# Altium schematic symbol library SamacSys.SchLib: 108 symbols (part 1 of 2)
Pins are listed as number, name and electrical type; pins without a type are passive.

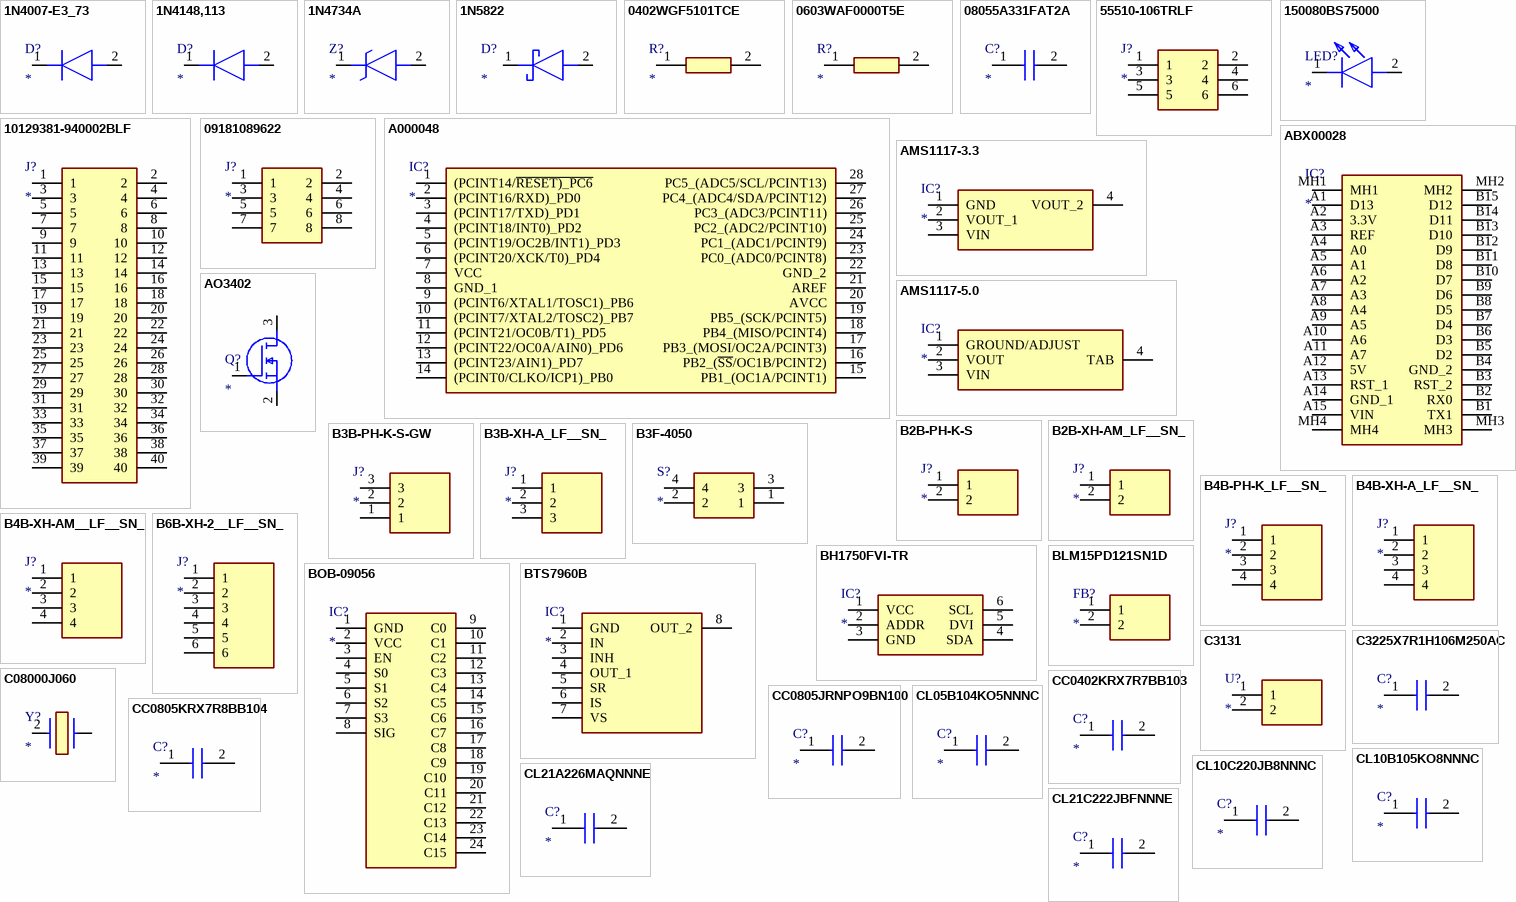
[diagram p0: symbols 1N4007-E3_73 to CL21C222JBFNNNE]

## 1N4007-E3_73
designator D?
Diode; Manufacturer_Name: Vishay; Manufacturer_Part_Number: 1N4007-E3/73; Datasheet Link: https://mouser.componentsearchengine.com/Datasheets/2/1N4007-E3_73.pdf; Mouser Part Number: 625-1N4007-E3/73; Mouser Price/Stock: https://www.mouser.co.uk/ProductDetail/Vishay-General-Semiconductor/1N4007-E3-73?qs=N4vtoAxH%2FSqT3Ng3e4K0Gw%3D%3D; Arrow Part Number: 1N4007-E3/73; Arrow Price/Stock: https://www.arrow.com/en/products/1n4007-e373/vishay?region=europe
footprint DIOAD1405W86L465D235
pins: 1 K, 2 A

## 1N4148,113
designator D?
Diode; Manufacturer_Name: Nexperia; Manufacturer_Part_Number: 1N4148,113; Datasheet Link: https://assets.nexperia.com/documents/data-sheet/1N4148_1N4448.pdf; Arrow Part Number: 1N4148,113; Arrow Price/Stock: https://www.arrow.com/en/products/1n4148113/nexperia
footprint DIOAD1165W56L425D185
pins: 1 K, 2 A

## 1N4734A
designator Z?
Zener Diode; Manufacturer_Name: Microsemi Corporation; Manufacturer_Part_Number: 1N4734A; Datasheet Link: https://www.microsemi.com/existing-parts/parts/2088#resources; Mouser Part Number: N/A; Mouser Price/Stock: https://www.mouser.co.uk/ProductDetail/Microchip-Microsemi/1N4734A?qs=oomPkbqnLXc7x92Y0KXq4g%3D%3D; Arrow Part Number: 1N4734A; Arrow Price/Stock: https://www.arrow.com/en/products/1n4734a/microsemi
footprint DIOAD1608W86L521D272
pins: 1 K, 2 A

## 1N5822
designator D?
Schottky Diode; Manufacturer_Name: NEUTRAL; Manufacturer_Part_Number: 1N5822
footprint DIOAD2984W132L952D508
pins: 1 K, 2 A

## 0402WGF5101TCE
designator R?
Resistor; Manufacturer_Name: UNI-ROYAL(Uniroyal Elec); Manufacturer_Part_Number: 0402WGF5101TCE; Datasheet Link: https://datasheet.lcsc.com/szlcsc/Uniroyal-Elec-0402WGF5101TCE_C25905.pdf; Height: 0.4mm
footprint RESC1005X40N
pins: 1, 2

## 0603WAF0000T5E
designator R?
Resistor; Manufacturer_Name: UNI-ROYAL(Uniroyal Elec); Manufacturer_Part_Number: 0603WAF0000T5E; Datasheet Link: https://www.lcsc.com/datasheet/lcsc_datasheet_2206010045_UNI-ROYAL-Uniroyal-Elec-0603WAF1002T5E_C25804.pdf; Height: 0.55mm
footprint RESC1608X55N
pins: 1, 2

## 08055A331FAT2A
designator C?
Capacitor; Manufacturer_Name: AVX; Manufacturer_Part_Number: 08055A331FAT2A; Datasheet Link: https://componentsearchengine.com/Datasheets/1/06031A100FAT2A.pdf; Height: 0.94mm; Mouser Part Number: 581-08055A331FAT2A; Mouser Price/Stock: https://www.mouser.com/Search/Refine.aspx?Keyword=581-08055A331FAT2A; Arrow Part Number: 08055A331FAT2A; Arrow Price/Stock: https://www.arrow.com/en/products/08055a331fat2a/avx
footprint CAPC2012X94N
pins: 1, 2

## 55510-106TRLF
designator J?
Connector; Manufacturer_Name: Amphenol; Manufacturer_Part_Number: 55510-106TRLF; Datasheet Link: https://componentsearchengine.com/Datasheets/1/55510-106TRLF.pdf; Height: 4.5mm; Mouser Part Number: 649-55510-106TRLF; Mouser Price/Stock: https://www.mouser.co.uk/ProductDetail/Amphenol-FCI/55510-106TRLF?qs=JdmRl75CwTo88cj04xUKAg%3D%3D; Arrow Part Number: 55510-106TRLF; Arrow Price/Stock: https://www.arrow.com/en/products/55510-106trlf/amphenol-fci?region=nac
footprint 55510106TRLF
pins: 1, 2, 3, 4, 5, 6

## 150080BS75000
designator LED?
LED; Manufacturer_Name: Wurth Elektronik; Manufacturer_Part_Number: 150080BS75000; Datasheet Link: https://katalog.we-online.com/led/datasheet/150080BS75000.pdf; Height: 0.8mm; Mouser Part Number: 710-150080BS75000; Mouser Price/Stock: https://www.mouser.co.uk/ProductDetail/Wurth-Elektronik/150080BS75000?qs=2kOmHSv6VfT2tBo3UPVqAQ%3D%3D
footprint LEDC2012X80N
pins: 1 K, 2 A

## 10129381-940002BLF
designator J?
Connector; Manufacturer_Name: Amphenol; Manufacturer_Part_Number: 10129381-940002BLF; Datasheet Link: https://cdn.amphenol-icc.com/media/wysiwyg/files/documentation/datasheet/boardwiretoboard/bwb_econostik_254headers.pdf; Height: 8.78mm; Mouser Part Number: 649-1012938194002BLF; Mouser Price/Stock: https://www.mouser.co.uk/ProductDetail/Amphenol-FCI/10129381-940002BLF?qs=0lQeLiL1qybDkBpXY7DYcQ%3D%3D
footprint HDRV40W64P254_2X20_5080X483X878P
pins: 1, 2, 3, 4, 5, 6, 7, 8, 9, 10, 11, 12, 13, 14, 15, 16, 17, 18, 19, 20, 21, 22, 23, 24, 25, 26, 27, 28, 29, 30, 31, 32, 33, 34, 35, 36, 37, 38, 39, 40

## 09181089622
designator J?
Connector; Manufacturer_Name: HARTING; Manufacturer_Part_Number: 09181089622; Datasheet Link: https://b2b.harting.com/files/download/PRD/PDF_DS/PDF_DS_09181089622_EN.pdf; Height: 5.5mm; Mouser Part Number: 617-09181089622; Mouser Price/Stock: https://www.mouser.co.uk/ProductDetail/HARTING/09181089622?qs=FeiuqfHlVTv2CjJEejdN9Q%3D%3D
footprint 09181089622
pins: 1, 2, 3, 4, 5, 6, 7, 8

## A000048
designator IC?
Integrated Circuit; Manufacturer_Name: Arduino; Manufacturer_Part_Number: A000048; Datasheet Link: https://componentsearchengine.com/Datasheets/2/A000048.pdf; Height: 4.572mm; Mouser Part Number: 782-A000048; Mouser Price/Stock: https://www.mouser.com/Search/Refine.aspx?Keyword=782-A000048
footprint DIP794W53P254L3467H457Q28N
pins: 1 (PCINT14/~{RESET)_PC6}, 2 (PCINT16/RXD)_PD0, 3 (PCINT17/TXD)_PD1, 4 (PCINT18/INT0)_PD2, 5 (PCINT19/OC2B/INT1)_PD3, 6 (PCINT20/XCK/T0)_PD4, 7 VCC, 8 GND_1, 9 (PCINT6/XTAL1/TOSC1)_PB6, 10 (PCINT7/XTAL2/TOSC2)_PB7, 11 (PCINT21/OC0B/T1)_PD5, 12 (PCINT22/OC0A/AIN0)_PD6, 13 (PCINT23/AIN1)_PD7, 14 (PCINT0/CLKO/ICP1)_PB0, 15 PB1_(OC1A/PCINT1), 16 PB2_(~{SS}/OC1B/PCINT2), 17 PB3_(MOSI/OC2A/PCINT3), 18 PB4_(MISO/PCINT4), 19 PB5_(SCK/PCINT5), 20 AVCC, 21 AREF, 22 GND_2, 23 PC0_(ADC0/PCINT8), 24 PC1_(ADC1/PCINT9), 25 PC2_(ADC2/PCINT10), 26 PC3_(ADC3/PCINT11), 27 PC4_(ADC4/SDA/PCINT12), 28 PC5_(ADC5/SCL/PCINT13)

## ABX00028
designator IC?
Integrated Circuit; Manufacturer_Name: Arduino; Manufacturer_Part_Number: ABX00028; Datasheet Link: https://store.arduino.cc/arduino-nano-every; Height: 10mm; Mouser Part Number: 782-ABX00028; Mouser Price/Stock: https://www.mouser.co.uk/ProductDetail/Arduino/ABX00028?qs=PzGy0jfpSMtit6rnFl8mVg%3D%3D; Arrow Part Number: ABX00028; Arrow Price/Stock: https://www.arrow.com/en/products/abx00028/arduino-corporation?region=nac
footprint ABX00028
pins: A1 D13, A2 3.3V, A3 REF, A4 A0, A5 A1, A6 A2, A7 A3, A8 A4, A9 A5, A10 A6, A11 A7, A12 5V, A13 RST_1, A14 GND_1, A15 VIN, B1 TX1, B2 RX0, B3 RST_2, B4 GND_2, B5 D2, B6 D3, B7 D4, B8 D5, B9 D6, B10 D7, B11 D8, B12 D9, B13 D10, B14 D11, B15 D12, MH1, MH2, MH3, MH4

## AMS1117-3.3
designator IC?
Integrated Circuit; Manufacturer_Name: Advanced Monolithic Systems; Manufacturer_Part_Number: AMS1117-3.3; Datasheet Link: http://www.advanced-monolithic.com/pdf/ds1117.pdf; Height: 1.8mm
footprint SOT229P700X180-4N
pins: 1 GND, 2 VOUT_1, 3 VIN, 4 VOUT_2

## AMS1117-5.0
designator IC?
Integrated Circuit; Manufacturer_Name: Advanced Monolithic Systems; Manufacturer_Part_Number: AMS1117-5.0; Datasheet Link: http://www.advanced-monolithic.com/pdf/ds1117.pdf; Height: 1.8mm
footprint SOT229P700X180-4N
pins: 1 GROUND/ADJUST, 2 VOUT, 3 VIN, 4 TAB

## AO3402
designator Q?
MOSFET (N-Channel); Manufacturer_Name: Alpha & Omega Semiconductors; Manufacturer_Part_Number: AO3402; Datasheet Link: http://aosmd.com/res/data_sheets/AO3402.pdf; Height: 1.25mm; Arrow Part Number: AO3402; Arrow Price/Stock: https://www.arrow.com/en/products/ao3402/alpha-and-omega-semiconductor?region=europe
footprint SOT95P280X125-3N
pins: 1 G, 2 S, 3 D

## B2B-PH-K-S
designator J?
Connector; Manufacturer_Name: JST (JAPAN SOLDERLESS TERMINALS); Manufacturer_Part_Number: B2B-PH-K-S; Datasheet Link: http://www.jst-mfg.com/product/pdf/eng/ePH.pdf; Height: 6mm
footprint SHDR2W50P0X200_1X2_590X450X600P
pins: 1, 2

## B2B-XH-AM_LF__SN_
designator J?
Connector; Manufacturer_Name: JST (JAPAN SOLDERLESS TERMINALS); Manufacturer_Part_Number: B2B-XH-AM(LF)(SN); Datasheet Link: https://www.jst-mfg.com/product/pdf/eng/eXH.pdf; Height: 7mm; Arrow Part Number: B2B-XH-AM(LF)(SN); Arrow Price/Stock: https://www.arrow.com/en/products/b2b-xh-am-lf-sn/jst-manufacturing?region=europe
footprint B2BXHAMLFSN
pins: 1, 2

## B3B-PH-K-S-GW
designator J?
Connector; Manufacturer_Name: JST (JAPAN SOLDERLESS TERMINALS); Manufacturer_Part_Number: B3B-PH-K-S-GW; Datasheet Link: http://www.jst-mfg.com/product/pdf/eng/ePH.pdf; Height: 6mm
footprint B3BPHKSGW
pins: 1, 2, 3

## B3B-XH-A_LF__SN_
designator J?
Connector; Manufacturer_Name: JST (JAPAN SOLDERLESS TERMINALS); Manufacturer_Part_Number: B3B-XH-A(LF)(SN); Datasheet Link: https://datasheet.lcsc.com/szlcsc/1812131720_JST-Sales-America-B3B-XH-A-LF-SN_C144394.pdf; Height: 7mm; Arrow Part Number: B3B-XH-A(LF)(SN); Arrow Price/Stock: https://www.arrow.com/en/products/b3b-xh-a-lf-sn/jst-manufacturing?region=europe
footprint B3BXHALFSN
pins: 1, 2, 3

## B3F-4050
designator S?
Switch; Manufacturer_Name: Omron Electronics; Manufacturer_Part_Number: B3F-4050; Description: lvory Plunger Tactile Switch; Datasheet Link: https://www.omron.com/ecb/products/pdf/en-b3f.pdf; Height: 7.5mm; Mouser Part Number: 653-B3F-4050; Mouser Price/Stock: https://www.mouser.co.uk/ProductDetail/Omron-Electronics/B3F-4050?qs=B3tblJ0Nlt9ObBVoLmesBQ%3D%3D; Arrow Part Number: B3F-4050; Arrow Price/Stock: https://www.arrow.com/en/products/b3f4050/omron?utm_currency=USD&region=europe
footprint B3F4050
pins: 1, 2, 3, 4

## B4B-PH-K_LF__SN_
designator J?
Connector; Manufacturer_Name: JST (JAPAN SOLDERLESS TERMINALS); Manufacturer_Part_Number: B4B-PH-K(LF)(SN); Datasheet Link: http://www.jst-mfg.com/product/pdf/eng/ePH.pdf; Height: 6mm
footprint SHDR4W50P0X200_1X4_990X450X600P
pins: 1, 2, 3, 4

## B4B-XH-A_LF__SN_
designator J?
Connector; Manufacturer_Name: JST (JAPAN SOLDERLESS TERMINALS); Manufacturer_Part_Number: B4B-XH-A(LF)(SN); Datasheet Link: https://datasheet.lcsc.com/szlcsc/JST-Sales-America-B4B-XH-A-LF-SN_C144395.pdf; Height: 7mm; Arrow Part Number: B4B-XH-A(LF)(SN); Arrow Price/Stock: https://www.arrow.com/en/products/b4b-xh-a-lf-sn/jst-manufacturing
footprint B4BXHALFSN
pins: 1, 2, 3, 4

## B4B-XH-AM__LF__SN_
designator J?
Connector; Manufacturer_Name: JST (JAPAN SOLDERLESS TERMINALS); Manufacturer_Part_Number: B4B-XH-AM (LF)(SN); Datasheet Link: http://www.jst-mfg.com/product/pdf/eng/eXH.pdf; Height: 7mm; Arrow Part Number: B4B-XH-AM (LF)(SN); Arrow Price/Stock: https://www.arrow.com/en/products/b4b-xh-am-lf-sn/jst-manufacturing?region=europe
footprint B4BXHAMLFSN
pins: 1, 2, 3, 4

## B6B-XH-2__LF__SN_
designator J?
Connector; Manufacturer_Name: JST (JAPAN SOLDERLESS TERMINALS); Manufacturer_Part_Number: B6B-XH-2 (LF)(SN); Datasheet Link: https://static6.arrow.com/aropdfconversion/bebabe3d183e85f31ef4e817bf14cd36f814e088/exh.pdf; Height: 7mm; Mouser Part Number: N/A; Mouser Price/Stock: https://www.mouser.com/Search/Refine.aspx?Keyword=N%2FA
footprint B6BXH2LFSN
pins: 1, 2, 3, 4, 5, 6

## BH1750FVI-TR
designator IC?
Integrated Circuit; Manufacturer_Name: ROHM Semiconductor; Manufacturer_Part_Number: BH1750FVI-TR; Datasheet Link: https://componentsearchengine.com/Datasheets/2/BH1750FVI-TR.pdf; Mouser Part Number: 755-BH1750FVI-TR; Mouser Price/Stock: https://www.mouser.co.uk/ProductDetail/ROHM-Semiconductor/BH1750FVI-TR?qs=phc6PQ%252BTPUNy88lRCs6mVA%3D%3D; Arrow Part Number: BH1750FVI-TR; Arrow Price/Stock: https://www.arrow.com/en/products/bh1750fvi-tr/rohm-semiconductor
footprint WSOF6
pins: 1 VCC, 2 ADDR, 3 GND, 4 SDA, 5 DVI, 6 SCL

## BLM15PD121SN1D
designator FB?
Ferrite Bead; Manufacturer_Name: Murata Electronics; Manufacturer_Part_Number: BLM15PD121SN1D; Datasheet Link: http://www.murata.com/~/media/webrenewal/support/library/catalog/products/emc/emifil/c31e.ashx?la=en-gb; Height: 0.55mm; Mouser Part Number: 81-BLM15PD121SN1D; Mouser Price/Stock: https://www.mouser.co.uk/ProductDetail/Murata-Electronics/BLM15PD121SN1D?qs=%2F%252BYoplLUB5g0Gmk4myE12Q%3D%3D; Arrow Part Number: BLM15PD121SN1D; Arrow Price/Stock: https://www.arrow.com/en/products/blm15pd121sn1d/murata-manufacturing?region=nac
footprint NFZ15SG152SN10B
pins: 1, 2

## BOB-09056
designator IC?
Integrated Circuit; Manufacturer_Name: SparkFun; Manufacturer_Part_Number: BOB-09056; Datasheet Link: https://www.sparkfun.com/products/9056; Height: 3mm; Mouser Part Number: 474-BOB-09056; Mouser Price/Stock: https://www.mouser.co.uk/ProductDetail/SparkFun/BOB-09056?qs=WyAARYrbSnY3lmN50Mm%2FiQ%3D%3D; Arrow Part Number: BOB-09056; Arrow Price/Stock: https://www.arrow.com/en/products/bob-09056/sparkfun-electronics?region=nac
footprint BOB09056
pins: 1 GND, 2 VCC, 3 EN, 4 S0, 5 S1, 6 S2, 7 S3, 8 SIG, 9 C0, 10 C1, 11 C2, 12 C3, 13 C4, 14 C5, 15 C6, 16 C7, 17 C8, 18 C9, 19 C10, 20 C11, 21 C12, 22 C13, 23 C14, 24 C15

## BTS7960B
designator IC?
Integrated Circuit; Manufacturer_Name: Rochester Electronics; Manufacturer_Part_Number: BTS7960B; Height: 4.4mm
footprint BTS7960B
pins: 1 GND, 2 IN, 3 INH, 4 OUT_1, 5 SR, 6 IS, 7 VS, 8 OUT_2

## C3131
designator U?
Undefined or Miscellaneous; Manufacturer_Name: Xucheng Elec; Manufacturer_Part_Number: C3131; Datasheet Link: https://datasheet.lcsc.com/szlcsc/XC-Elec-Shenzhen-5x20-BLX-Fuse-holder_C3131.pdf; Height: 10.5mm
footprint C3131
pins: 1, 2

## C3225X7R1H106M250AC
designator C?
Capacitor; Manufacturer_Name: TDK; Manufacturer_Part_Number: C3225X7R1H106M250AC; Datasheet Link: https://product.tdk.com/info/en/catalog/datasheets/mlcc_commercial_midvoltage_en.pdf; Height: 2.3mm; Mouser Part Number: 810-C3225X7R1H106MAC; Mouser Price/Stock: https://www.mouser.co.uk/ProductDetail/TDK/C3225X7R1H106M250AC?qs=6JAMGB%252BEdkwY95l8JqNSnw%3D%3D; Arrow Part Number: C3225X7R1H106M250AC; Arrow Price/Stock: https://www.arrow.com/en/products/c3225x7r1h106m250ac/tdk?region=nac
footprint CAPC3225X230N
pins: 1, 2

## C08000J060
designator Y?
Crystal or Oscillator; Manufacturer_Name: ECEC; Manufacturer_Part_Number: C08000J060; Datasheet Link: https://datasheet.lcsc.com/lcsc/1810251524_ECEC-ZheJiang-E-ast-Crystal-Elec-C08000J060_C259040.pdf; Height: 4.1mm
footprint C08000J060
pins: 2 CRYSTAL_2, ?1

## CC0402KRX7R7BB103
designator C?
Capacitor; Manufacturer_Name: YAGEO; Manufacturer_Part_Number: CC0402KRX7R7BB103; Datasheet Link: https://www.yageo.com/upload/media/product/productsearch/datasheet/mlcc/UPY-GPHC_X7R_6.3V-to-50V_20.pdf; Height: 0.55mm; Mouser Part Number: 603-CC402KRX7R7BB103; Mouser Price/Stock: https://www.mouser.co.uk/ProductDetail/YAGEO/CC0402KRX7R7BB103?qs=AgBp2OyFlx8cKvXdhdEm3Q%3D%3D; Arrow Part Number: CC0402KRX7R7BB103; Arrow Price/Stock: https://www.arrow.com/en/products/cc0402krx7r7bb103/yageo?region=nac
footprint CAPC1005X55N
pins: 1, 2

## CC0805JRNPO9BN100
designator C?
Capacitor; Manufacturer_Name: YAGEO; Manufacturer_Part_Number: CC0805JRNPO9BN100; Datasheet Link: https://www.mouser.co.uk/datasheet/2/447/UPY_GP_NP0_16V_to_50V_18-1730511.pdf; Height: 0.7mm; Mouser Part Number: 603-CC805JRNPO9BN100; Mouser Price/Stock: https://www.mouser.co.uk/ProductDetail/YAGEO/CC0805JRNPO9BN100?qs=DBlb8Oi07mYgwCvOiwRYAw%3D%3D
footprint CAPC2012X70N
pins: 1, 2

## CC0805KRX7R8BB104
designator C?
Capacitor; Manufacturer_Name: YAGEO; Manufacturer_Part_Number: CC0805KRX7R8BB104; Datasheet Link: https://g.componentsearchengine.com/Datasheets/2/CC0805KRX7R8BB104.pdf; Height: 0.95mm; Mouser Part Number: 603-CC805KRX7R8BB104; Mouser Price/Stock: https://www.mouser.co.uk/ProductDetail/YAGEO/CC0805KRX7R8BB104?qs=AgBp2OyFlx%2F3E%2FJFaR3z0g%3D%3D; Arrow Part Number: CC0805KRX7R8BB104; Arrow Price/Stock: https://www.arrow.com/en/products/cc0805krx7r8bb104/yageo?region=nac
footprint CAPC2012X95N
pins: 1, 2

## CL05B104KO5NNNC
designator C?
Capacitor; Manufacturer_Name: SAMSUNG; Manufacturer_Part_Number: CL05B104KO5NNNC; Datasheet Link: https://datasheet.datasheetarchive.com/originals/distributors/Datasheets-DGA10/2408147.pdf; Height: 0.55mm; Mouser Part Number: 187-CL05B104KO5NNNC; Mouser Price/Stock: https://www.mouser.co.uk/ProductDetail/Samsung-Electro-Mechanics/CL05B104KO5NNNC?qs=hqM3L16%252BxlfT2SKOuAUq6Q%3D%3D; Arrow Part Number: CL05B104KO5NNNC; Arrow Price/Stock: https://www.arrow.com/en/products/cl05b104ko5nnnc/samsung-electro-mechanics?region=nac
footprint CAPC1005X55N
pins: 1, 2

## CL10B105KO8NNNC
designator C?
Capacitor; Manufacturer_Name: SAMSUNG; Manufacturer_Part_Number: CL10B105KO8NNNC; Datasheet Link: https://datasheet.datasheetarchive.com/originals/distributors/Datasheets-DGA10/2410179.pdf; Height: 0.9mm; Mouser Part Number: 187-CL10B105KO8NNNC; Mouser Price/Stock: https://www.mouser.co.uk/ProductDetail/Samsung-Electro-Mechanics/CL10B105KO8NNNC?qs=349EhDEZ59o2mlUAs%2FkaKg%3D%3D; Arrow Part Number: CL10B105KO8NNNC; Arrow Price/Stock: https://www.arrow.com/en/products/cl10b105ko8nnnc/samsung-electro-mechanics?region=europe
footprint CAPC1608X90N
pins: 1, 2

## CL10C220JB8NNNC
designator C?
Capacitor; Manufacturer_Name: SAMSUNG; Manufacturer_Part_Number: CL10C220JB8NNNC; Datasheet Link: https://www.arrow.com/en/products/cl10c220jb8nnnc/samsung-electro-mechanics; Height: 0.9mm; Mouser Part Number: 187-CL10C220JB8NNNC; Mouser Price/Stock: https://www.mouser.co.uk/ProductDetail/Samsung-Electro-Mechanics/CL10C220JB8NNNC?qs=349EhDEZ59oibjgB6q8fqA%3D%3D; Arrow Part Number: CL10C220JB8NNNC; Arrow Price/Stock: https://www.arrow.com/en/products/cl10c220jb8nnnc/samsung-electro-mechanics?region=europe
footprint CAPC1608X90N
pins: 1, 2

## CL21A226MAQNNNE
designator C?
Capacitor; Manufacturer_Name: SAMSUNG; Manufacturer_Part_Number: CL21A226MAQNNNE; Datasheet Link: https://datasheet.datasheetarchive.com/originals/distributors/Datasheets-DGA10/2406310.pdf; Height: 1.4mm; Mouser Part Number: 187-CL21A226MAQNNNE; Mouser Price/Stock: https://www.mouser.co.uk/ProductDetail/Samsung-Electro-Mechanics/CL21A226MAQNNNE?qs=yOVawPpwOwn5SPpGykCwnw%3D%3D; Arrow Part Number: CL21A226MAQNNNE; Arrow Price/Stock: https://www.arrow.com/en/products/cl21a226maqnnne/samsung-electro-mechanics
footprint CAPC2012X140N
pins: 1, 2

## CL21C222JBFNNNE
designator C?
Capacitor; Manufacturer_Name: SAMSUNG; Manufacturer_Part_Number: CL21C222JBFNNNE; Datasheet Link: https://www.arrow.com/en/products/cl21c222jbfnnne/samsung-electro-mechanics; Height: 1.35mm; Mouser Part Number: N/A; Mouser Price/Stock: https://www.mouser.co.uk/ProductDetail/Samsung-Electro-Mechanics/CL21C222JBFNNNE?qs=349EhDEZ59r2o3fpAuNjEQ%3D%3D; Arrow Part Number: CL21C222JBFNNNE; Arrow Price/Stock: https://www.arrow.com/en/products/cl21c222jbfnnne/samsung-electro-mechanics
footprint CAPC2012X135N
pins: 1, 2

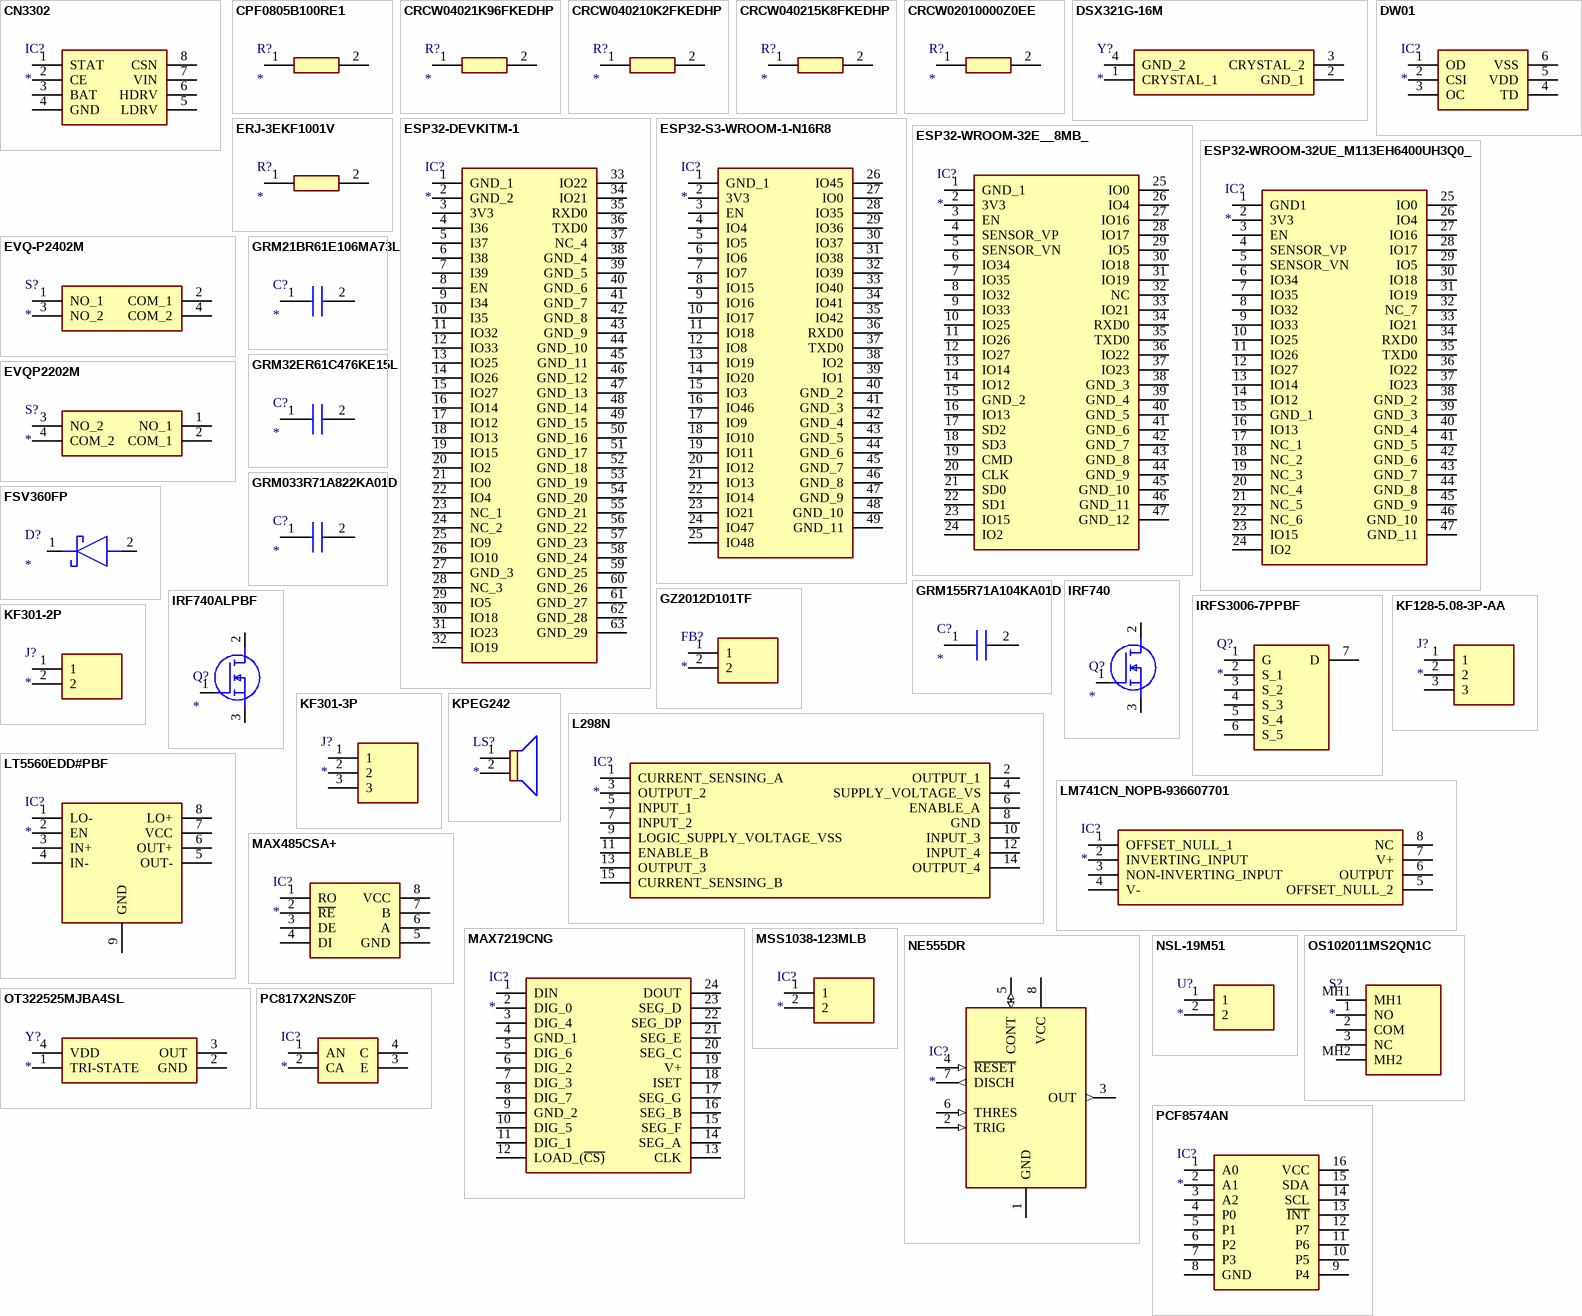
[diagram p1: symbols CN3302 to PCF8574AN]

## CN3302
designator IC?
Integrated Circuit; Manufacturer_Name: Consonance; Manufacturer_Part_Number: CN3302; Datasheet Link: https://datasheet.lcsc.com/lcsc/2206101016_ShangHai-Consonance-Elec-CN3302_C559039.pdf; Height: 1.75mm
footprint SOIC127P600X175-8N
pins: 1 STAT, 2 CE, 3 BAT, 4 GND, 5 LDRV, 6 HDRV, 7 VIN, 8 CSN

## CPF0805B100RE1
designator R?
Resistor; Manufacturer_Name: TE Connectivity; Manufacturer_Part_Number: CPF0805B100RE1; Datasheet Link: http://docs-europe.electrocomponents.com/webdocs/13d1/0900766b813d116f.pdf; Height: 0.65mm; Mouser Part Number: 279-CPF0805B100RE1; Mouser Price/Stock: https://www.mouser.co.uk/ProductDetail/TE-Connectivity-Holsworthy/CPF0805B100RE1?qs=9ylKvqdyudkCWLPT1QvLZQ%3D%3D; Arrow Part Number: CPF0805B100RE1; Arrow Price/Stock: https://www.arrow.com/en/products/cpf0805b100re1/te-connectivity?region=nac
footprint RESC2012X65N
pins: 1, 2

## CRCW04021K96FKEDHP
designator R?
Resistor; Manufacturer_Name: Vishay; Manufacturer_Part_Number: CRCW04021K96FKEDHP; Datasheet Link: http://www.vishay.com/docs/20035/dcrcwe3.pdf; Height: 0.4mm; Mouser Part Number: N/A; Mouser Price/Stock: https://www.mouser.co.uk/ProductDetail/Vishay-Dale/CRCW04021K96FKEDHP?qs=iK1WN%252B6Jvq%2Fv9c5i4ZSDuw%3D%3D
footprint RESC1005X40N
pins: 1, 2

## CRCW040210K2FKEDHP
designator R?
Resistor; Manufacturer_Name: Vishay; Manufacturer_Part_Number: CRCW040210K2FKEDHP; Datasheet Link: http://www.vishay.com/docs/20035/dcrcwe3.pdf; Height: 0.4mm; Arrow Part Number: CRCW040210K2FKEDHP; Arrow Price/Stock: https://www.arrow.com/en/products/crcw040210k2fkedhp/vishay?region=nac
footprint RESC1005X40N
pins: 1, 2

## CRCW040215K8FKEDHP
designator R?
Resistor; Manufacturer_Name: Vishay; Manufacturer_Part_Number: CRCW040215K8FKEDHP; Datasheet Link: http://www.vishay.com/docs/20035/dcrcwe3.pdf; Height: 0.4mm; Mouser Part Number: N/A; Mouser Price/Stock: https://www.mouser.co.uk/ProductDetail/Vishay-Dale/CRCW040215K8FKEDHP?qs=VAB4DzKv5wUyAVFcJPqp6w%3D%3D
footprint RESC1005X40N
pins: 1, 2

## CRCW02010000Z0EE
designator R?
Resistor; Manufacturer_Name: Vishay; Manufacturer_Part_Number: CRCW02010000Z0EE; Datasheet Link: http://www.vishay.com/docs/20035/dcrcwe3.pdf; Height: 0.28mm; Arrow Part Number: CRCW02010000Z0EE; Arrow Price/Stock: https://www.arrow.com/en/products/crcw02010000z0ee/vishay
footprint RESC0603X28N
pins: 1, 2

## DSX321G-16M
designator Y?
Crystal or Oscillator; Manufacturer_Name: KDS Daishinku; Manufacturer_Part_Number: DSX321G-16M; Datasheet Link: https://www.kds.info/product/dsx321g/?mlang=en; Height: 0.9mm
footprint DSX321G16M
pins: 1 CRYSTAL_1, 2 GND_1, 3 CRYSTAL_2, 4 GND_2

## DW01
designator IC?
Integrated Circuit; Manufacturer_Name: Slkor; Manufacturer_Part_Number: DW01; Datasheet Link: https://datasheet.lcsc.com/szlcsc/1906271838_SLKORMICRO-Elec-DW01_C359989.pdf; Height: 1.35mm
footprint SOT95P280X135-6N
pins: 1 OD, 2 CSI, 3 OC, 4 TD, 5 VDD, 6 VSS

## ERJ-3EKF1001V
designator R?
Resistor; Manufacturer_Name: Panasonic; Manufacturer_Part_Number: ERJ-3EKF1001V; Datasheet Link: https://industrial.panasonic.com/cdbs/www-data/pdf/RDA0000/AOA0000C304.pdf; Height: 0.55mm; Mouser Part Number: 667-ERJ-3EKF1001V; Mouser Price/Stock: https://www.mouser.co.uk/ProductDetail/Panasonic/ERJ-3EKF1001V?qs=H7k1u0Mp9JTM8yQxOuvoDg%3D%3D; Arrow Part Number: ERJ-3EKF1001V; Arrow Price/Stock: https://www.arrow.com/en/products/erj-3ekf1001v/panasonic?region=europe
footprint ERJ3EK_(0603)
pins: 1, 2

## ESP32-DEVKITM-1
designator IC?
Integrated Circuit; Manufacturer_Name: Espressif Systems; Manufacturer_Part_Number: ESP32-DEVKITM-1; Datasheet Link: https://www.espressif.com/sites/default/files/documentation/esp32-mini-1_datasheet_en.pdf; Height: 2.55mm; Mouser Part Number: 356-ESP32-DEVKITM-1; Mouser Price/Stock: https://www.mouser.co.uk/ProductDetail/Espressif-Systems/ESP32-DEVKITM-1?qs=81r%252BiQLm7BSCdo5emILkwQ%3D%3D
footprint ESP32DEVKITM1
pins: 1 GND_1, 2 GND_2, 3 3V3, 4 I36, 5 I37, 6 I38, 7 I39, 8 EN, 9 I34, 10 I35, 11 IO32, 12 IO33, 13 IO25, 14 IO26, 15 IO27, 16 IO14, 17 IO12, 18 IO13, 19 IO15, 20 IO2, 21 IO0, 22 IO4, 23 NC_1, 24 NC_2, 25 IO9, 26 IO10, 27 GND_3, 28 NC_3, 29 IO5, 30 IO18, 31 IO23, 32 IO19, 33 IO22, 34 IO21, 35 RXD0, 36 TXD0, 37 NC_4, 38 GND_4, 39 GND_5, 40 GND_6, 41 GND_7, 42 GND_8, 43 GND_9, 44 GND_10, 45 GND_11, 46 GND_12, 47 GND_13, 48 GND_14, 49 GND_15, 50 GND_16, 51 GND_17, 52 GND_18, 53 GND_19, 54 GND_20, 55 GND_21, 56 GND_22, 57 GND_23, 58 GND_24, 59 GND_25, 60 GND_26, 61 GND_27, 62 GND_28, 63 GND_29

## ESP32-S3-WROOM-1-N16R8
designator IC?
Integrated Circuit; Manufacturer_Name: Espressif Systems; Manufacturer_Part_Number: ESP32-S3-WROOM-1-N16R8; Datasheet Link: https://www.espressif.com/sites/default/files/documentation/esp32-s3-wroom-1_wroom-1u_datasheet_en.pdf; Height: 3.25mm; Mouser Part Number: 356-ESP32S3WRM1N16R8; Mouser Price/Stock: https://www.mouser.co.uk/ProductDetail/Espressif-Systems/ESP32-S3-WROOM-1-N16R8?qs=Li%252BoUPsLEnvQc9gW6AMhZg%3D%3D
footprint ESP32S3WROOM1N16R8
pins: 1 GND_1, 2 3V3, 3 EN, 4 IO4, 5 IO5, 6 IO6, 7 IO7, 8 IO15, 9 IO16, 10 IO17, 11 IO18, 12 IO8, 13 IO19, 14 IO20, 15 IO3, 16 IO46, 17 IO9, 18 IO10, 19 IO11, 20 IO12, 21 IO13, 22 IO14, 23 IO21, 24 IO47, 25 IO48, 26 IO45, 27 IO0, 28 IO35, 29 IO36, 30 IO37, 31 IO38, 32 IO39, 33 IO40, 34 IO41, 35 IO42, 36 RXD0, 37 TXD0, 38 IO2, 39 IO1, 40 GND_2, 41 GND_3, 42 GND_4, 43 GND_5, 44 GND_6, 45 GND_7, 46 GND_8, 47 GND_9, 48 GND_10, 49 GND_11

## ESP32-WROOM-32E__8MB_
designator IC?
Integrated Circuit; Manufacturer_Name: Espressif Systems; Manufacturer_Part_Number: ESP32-WROOM-32E (8MB); Datasheet Link: https://www.espressif.com/sites/default/files/documentation/esp32-wroom-32_datasheet_en.pdf; Height: 3.2mm; Mouser Part Number: 356-ESP32WRM32E164PH; Mouser Price/Stock: https://www.mouser.co.uk/ProductDetail/Espressif-Systems/ESP32-WROOM-32E-8MB?qs=GBLSl2AkirsjshqvD9slKA%3D%3D
footprint ESP32WROOM32E8MB
pins: 1 GND_1, 2 3V3, 3 EN, 4 SENSOR_VP, 5 SENSOR_VN, 6 IO34, 7 IO35, 8 IO32, 9 IO33, 10 IO25, 11 IO26, 12 IO27, 13 IO14, 14 IO12, 15 GND_2, 16 IO13, 17 SD2, 18 SD3, 19 CMD, 20 CLK, 21 SD0, 22 SD1, 23 IO15, 24 IO2, 25 IO0, 26 IO4, 27 IO16, 28 IO17, 29 IO5, 30 IO18, 31 IO19, 32 NC, 33 IO21, 34 RXD0, 35 TXD0, 36 IO22, 37 IO23, 38 GND_3, 39 GND_4, 40 GND_5, 41 GND_6, 42 GND_7, 43 GND_8, 44 GND_9, 45 GND_10, 46 GND_11, 47 GND_12

## ESP32-WROOM-32UE_M113EH6400UH3Q0_
designator IC?
Integrated Circuit; Manufacturer_Name: Espressif Systems; Manufacturer_Part_Number: ESP32-WROOM-32UE(M113EH6400UH3Q0); Datasheet Link: https://www.espressif.com/sites/default/files/documentation/esp32-wroom-32e_esp32-wroom-32ue_datasheet_en.pdf; Height: 3.35mm; Mouser Part Number: 356-ESP32WRM32UE64UH; Mouser Price/Stock: https://www.mouser.co.uk/ProductDetail/Espressif-Systems/ESP32-WROOM-32UEM113EH6400UH3Q0?qs=vHuUswq2%252BsxjtHWnhz9C5Q%3D%3D
footprint ESP32WROOM32UEM113EH6400UH3Q0
pins: 1 GND1, 2 3V3, 3 EN, 4 SENSOR_VP, 5 SENSOR_VN, 6 IO34, 7 IO35, 8 IO32, 9 IO33, 10 IO25, 11 IO26, 12 IO27, 13 IO14, 14 IO12, 15 GND_1, 16 IO13, 17 NC_1, 18 NC_2, 19 NC_3, 20 NC_4, 21 NC_5, 22 NC_6, 23 IO15, 24 IO2, 25 IO0, 26 IO4, 27 IO16, 28 IO17, 29 IO5, 30 IO18, 31 IO19, 32 NC_7, 33 IO21, 34 RXD0, 35 TXD0, 36 IO22, 37 IO23, 38 GND_2, 39 GND_3, 40 GND_4, 41 GND_5, 42 GND_6, 43 GND_7, 44 GND_8, 45 GND_9, 46 GND_10, 47 GND_11

## EVQ-P2402M
designator S?
Switch; Manufacturer_Name: Panasonic; Manufacturer_Part_Number: EVQ-P2402M; Datasheet Link: https://industrial.panasonic.com/ac/cdn/e/control/switch/light-touch/catalog/sw_lt_eng_4735s.pdf; Height: 2.7mm; Mouser Part Number: 667-EVQ-P2402M; Mouser Price/Stock: https://www.mouser.co.uk/ProductDetail/Panasonic/EVQ-P2402M?qs=SxaZfIVsCL0Vzf2d76%252BKCA%3D%3D; Arrow Part Number: EVQ-P2402M; Arrow Price/Stock: https://www.arrow.com/en/products/evqp2402m/panasonic?region=nac
footprint EVQP2402M
pins: 1 NO_1, 2 COM_1, 3 NO_2, 4 COM_2

## EVQP2202M
designator S?
Switch; Manufacturer_Name: Panasonic; Manufacturer_Part_Number: EVQP2202M; Datasheet Link: https://industrial.panasonic.com/cdbs/www-data/pdf/ATK0000/ATK0000C374.pdf; Height: 2.7mm
footprint EVQP2D02Q
pins: 1 NO_1, 2 COM_1, 3 NO_2, 4 COM_2

## FSV360FP
designator D?
Schottky Diode; Manufacturer_Name: onsemi; Manufacturer_Part_Number: FSV360FP; Datasheet Link: https://datasheet.datasheetarchive.com/originals/distributors/DKDS-30/584853.pdf; Height: 1mm; Mouser Part Number: 512-FSV360FP; Mouser Price/Stock: https://www.mouser.co.uk/ProductDetail/ON-Semiconductor-Fairchild/FSV360FP?qs=tqW9UTzndZzmC5MffD9P5Q%3D%3D; Arrow Part Number: FSV360FP; Arrow Price/Stock: https://www.arrow.com/en/products/fsv360fp/on-semiconductor?region=nac
footprint SS12FP
pins: 1 K, 2 A

## GRM21BR61E106MA73L
designator C?
Capacitor; Manufacturer_Name: Murata Electronics; Manufacturer_Part_Number: GRM21BR61E106MA73L; Datasheet Link: http://www.murata.com/~/media/webrenewal/support/library/catalog/products/capacitor/mlcc/c02e.pdf; Height: 1.45mm; Mouser Part Number: 81-GRM21BR61E106MA3L; Mouser Price/Stock: https://www.mouser.co.uk/ProductDetail/Murata-Electronics/GRM21BR61E106MA73L?qs=2W5sgKM%2F371odLMyCilkag%3D%3D; Arrow Part Number: GRM21BR61E106MA73L; Arrow Price/Stock: https://www.arrow.com/en/products/grm21br61e106ma73l/murata-manufacturing?region=nac
footprint CAPC2012X145N
pins: 1, 2

## GRM32ER61C476KE15L
designator C?
Capacitor; Manufacturer_Name: Murata Electronics; Manufacturer_Part_Number: GRM32ER61C476KE15L; Datasheet Link: http://psearch.en.murata.com/capacitor/product/GRM32ER71E226KE15%23.pdf; Height: 2.7mm; Mouser Part Number: 81-GRM32ER61C476KE5L; Mouser Price/Stock: https://www.mouser.co.uk/ProductDetail/Murata-Electronics/GRM32ER61C476KE15L?qs=%252B%2F7tQhzlcy7Im%2F1Gh2YSGQ%3D%3D; Arrow Part Number: GRM32ER61C476KE15L; Arrow Price/Stock: https://www.arrow.com/en/products/grm32er61c476ke15l/murata-manufacturing?region=nac
footprint CAPC3225X270N
pins: 1, 2

## GRM033R71A822KA01D
designator C?
Capacitor; Manufacturer_Name: Murata Electronics; Manufacturer_Part_Number: GRM033R71A822KA01D; Datasheet Link: http://www.murata.com/~/media/webrenewal/support/library/catalog/products/capacitor/mlcc/c02e.pdf; Height: 0.33mm; Mouser Part Number: 81-GRM033R71A822KA1D; Mouser Price/Stock: https://www.mouser.co.uk/ProductDetail/Murata-Electronics/GRM033R71A822KA01D?qs=eHmNfHpZo0Q594IfWnoGlQ%3D%3D; Arrow Part Number: GRM033R71A822KA01D; Arrow Price/Stock: https://www.arrow.com/en/products/grm033r71a822ka01d/murata-manufacturing
footprint CAPC0603X33N
pins: 1, 2

## GRM155R71A104KA01D
designator C?
Capacitor; Manufacturer_Name: Murata Electronics; Manufacturer_Part_Number: GRM155R71A104KA01D; Datasheet Link: http://www.murata.com/~/media/webrenewal/support/library/catalog/products/capacitor/mlcc/c02e.pdf; Height: 0.55mm; Mouser Part Number: 81-GRM155R71A104KA1D; Mouser Price/Stock: https://www.mouser.co.uk/ProductDetail/Murata-Electronics/GRM155R71A104KA01D?qs=8YPuuxuUzMIpJ%252BESZ%2Fj8CQ%3D%3D; Arrow Part Number: GRM155R71A104KA01D; Arrow Price/Stock: https://www.arrow.com/en/products/grm155r71a104ka01d/murata-manufacturing?region=nac
footprint CAPC1005X55N
pins: 1, 2

## GZ2012D101TF
designator FB?
Ferrite Bead; Manufacturer_Name: SUNLORD; Manufacturer_Part_Number: GZ2012D101TF; Datasheet Link: https://datasheet.lcsc.com/szlcsc/Sunlord-GZ2012D101TF_C1015.pdf; Height: 1.05mm
footprint BEADC2112X105N
pins: 1, 2

## IRF740
designator Q?
MOSFET (N-Channel); Manufacturer_Name: STMicroelectronics; Manufacturer_Part_Number: IRF740; Datasheet Link: https://datasheet.datasheetarchive.com/originals/distributors/Datasheets-8/DSA-150462.pdf; Height: 4.6mm; Mouser Part Number: 511-IRF740; Mouser Price/Stock: https://www.mouser.co.uk/ProductDetail/STMicroelectronics/IRF740?qs=FOlmdCx%252BAA2WhqXYddXhog%3D%3D
footprint TO255P460X1020X2008-3P
pins: 1 G, 2 D, 3 S

## IRF740ALPBF
designator Q?
MOSFET (N-Channel); Manufacturer_Name: Vishay; Manufacturer_Part_Number: IRF740ALPBF; Datasheet Link: http://www.vishay.com/docs/91052/sihf740a.pdf; Height: 4.83mm; Mouser Part Number: 844-IRF740ALPBF; Mouser Price/Stock: https://www.mouser.co.uk/ProductDetail/Vishay-Semiconductors/IRF740ALPBF?qs=cvaI6ThkwxsaBrlYHSdg5g%3D%3D; Arrow Part Number: IRF740ALPBF; Arrow Price/Stock: https://www.arrow.com/en/products/irf740alpbf/vishay?region=nac
footprint TO254P483X1016X1501-3P
pins: 1 G, 2 D, 3 S

## IRFS3006-7PPBF
designator Q?
MOSFET (N-Channel); Manufacturer_Name: Infineon; Manufacturer_Part_Number: IRFS3006-7PPBF; Datasheet Link: https://www.infineon.com/dgdl/irfs3006-7ppbf.pdf?fileId=5546d462533600a4015356364189214d; Height: 4mm; Mouser Part Number: 942-IRFS3006-7PPBF; Mouser Price/Stock: https://www.mouser.com/Search/Refine.aspx?Keyword=942-IRFS3006-7PPBF; Arrow Part Number: IRFS3006-7PPBF; Arrow Price/Stock: https://www.arrow.com/en/products/irfs3006-7ppbf/infineon-technologies-ag
footprint IPB240N04S4R9ATMA1
pins: 1 G, 2 S_1, 3 S_2, 4 S_3, 5 S_4, 6 S_5, 7 D

## KF128-5.08-3P-AA
designator J?
Connector; Manufacturer_Name: CIXI KEFA ELECTRONICS; Manufacturer_Part_Number: KF128-5.08-3P-AA; Datasheet Link: https://datasheet.lcsc.com/lcsc/2001152335_Cixi-Kefa-Elec-KF128-5-08-3P-AA_C474953.pdf; Height: 14.1mm
footprint KF1285083PAA
pins: 1, 2, 3

## KF301-2P
designator J?
Connector; Manufacturer_Name: Handson Technology; Manufacturer_Part_Number: KF301-2P; Datasheet Link: http://www.handsontec.com/dataspecs/terminal%20block-5mm.pdf; Height: 10mm
footprint KF3012P
pins: 1, 2

## KF301-3P
designator J?
Connector; Manufacturer_Name: Handson Technology; Manufacturer_Part_Number: KF301-3P; Datasheet Link: http://www.handsontec.com/dataspecs/terminal%20block-5mm.pdf; Height: 10mm
footprint KF3013P
pins: 1, 2, 3

## KPEG242
designator LS?
Loudspeaker or Buzzer; Manufacturer_Name: KINGSTATE; Manufacturer_Part_Number: KPEG242; Datasheet Link: http://uk.rs-online.com/web/p/products/5358253
footprint KPEG242
pins: 1, 2

## L298N
designator IC?
Integrated Circuit; Manufacturer_Name: Magnatec; Manufacturer_Part_Number: L298N
footprint MULTIWATT15V_1
pins: 1 CURRENT_SENSING_A, 2 OUTPUT_1, 3 OUTPUT_2, 4 SUPPLY_VOLTAGE_VS, 5 INPUT_1, 6 ENABLE_A, 7 INPUT_2, 8 GND, 9 LOGIC_SUPPLY_VOLTAGE_VSS, 10 INPUT_3, 11 ENABLE_B, 12 INPUT_4, 13 OUTPUT_3, 14 OUTPUT_4, 15 CURRENT_SENSING_B

## LM741CN_NOPB-936607701
designator IC?
Integrated Circuit; Manufacturer_Name: Texas Instruments; Manufacturer_Part_Number: LM741CN/NOPB-936607701; Datasheet Link: https://www.arrow.com/en/products/lm741cnnopb-936607701/texas-instruments; Height: 5.08mm; Arrow Part Number: LM741CN/NOPB-936607701; Arrow Price/Stock: https://www.arrow.com/en/products/lm741cnnopb-936607701/texas-instruments
footprint DIP794W53P254L959H508Q8N
pins: 1 OFFSET_NULL_1, 2 INVERTING_INPUT, 3 NON-INVERTING_INPUT, 4 V-, 5 OFFSET_NULL_2, 6 OUTPUT, 7 V+, 8 NC

## LT5560EDD#PBF
designator IC?
Integrated Circuit; Manufacturer_Name: Analog Devices; Manufacturer_Part_Number: LT5560EDD#PBF; Datasheet Link: https://www.analog.com/media/en/technical-documentation/data-sheets/5560f.pdf; Height: 0.8mm; Mouser Part Number: 584-LT5560EDD#PBF; Mouser Price/Stock: https://www.mouser.co.uk/ProductDetail/Analog-Devices/LT5560EDDPBF?qs=hVkxg5c3xu%2F7Fggyyx1YdQ%3D%3D; Arrow Part Number: LT5560EDD#PBF; Arrow Price/Stock: https://www.arrow.com/en/products/lt5560eddpbf/analog-devices?region=nac
footprint SON50P300X300X80-9N-D
pins: 1 LO-, 2 EN, 3 IN+, 4 IN-, 5 OUT-, 6 OUT+, 7 VCC, 8 LO+, 9 GND

## MAX485CSA+
designator IC?
Integrated Circuit; Manufacturer_Name: Analog Devices; Manufacturer_Part_Number: MAX485CSA+; Datasheet Link: http://datasheets.maximintegrated.com/en/ds/MAX1487-MAX491.pdf; Height: 1.75mm; Mouser Part Number: 700-MAX485CSA; Mouser Price/Stock: https://www.mouser.co.uk/ProductDetail/Analog-Devices-Maxim-Integrated/MAX485CSA%2b?qs=1THa7WoU59EQmpurcwoy4Q%3D%3D; Arrow Part Number: MAX485CSA+; Arrow Price/Stock: https://www.arrow.com/en/products/max485csa/analog-devices?region=nac
footprint SOIC127P600X175-8N
pins: 1 RO, 2 ~{RE}, 3 DE, 4 DI, 5 GND, 6 A, 7 B, 8 VCC

## MAX7219CNG
designator IC?
Integrated Circuit; Manufacturer_Name: Analog Devices; Manufacturer_Part_Number: MAX7219CNG; Datasheet Link: https://datasheets.maximintegrated.com/en/ds/MAX7219-MAX7221.pdf; Height: 4.572mm; Mouser Part Number: 700-MAX7219CNG-NR; Mouser Price/Stock: https://www.mouser.co.uk/ProductDetail/Maxim-Integrated/MAX7219CNG?qs=p6VZ%252BklCkRToQRlZGegBBA%3D%3D
footprint DIP794W56P254L3054H457Q24N
pins: 1 DIN, 2 DIG_0, 3 DIG_4, 4 GND_1, 5 DIG_6, 6 DIG_2, 7 DIG_3, 8 DIG_7, 9 GND_2, 10 DIG_5, 11 DIG_1, 12 LOAD_(~{CS)}, 13 CLK, 14 SEG_A, 15 SEG_F, 16 SEG_B, 17 SEG_G, 18 ISET, 19 V+, 20 SEG_C, 21 SEG_E, 22 SEG_DP, 23 SEG_D, 24 DOUT

## MSS1038-123MLB
designator IC?
Integrated Circuit; Manufacturer_Name: COILCRAFT; Manufacturer_Part_Number: MSS1038-123MLB; Datasheet Link: https://www.coilcraft.com/pdfs/mss1038.pdf; Height: 4mm; Mouser Part Number: 994-MSS1038-123MLB; Mouser Price/Stock: https://www.mouser.co.uk/ProductDetail/Coilcraft/MSS1038-123MLB?qs=VJjuEbE9QBOKthidtHeNkQ%3D%3D
footprint INDPM102100X400N
pins: 1, 2

## NE555DR
designator IC?
Integrated Circuit; Manufacturer_Name: Texas Instruments; Manufacturer_Part_Number: NE555DR; Datasheet Link: http://www.ti.com/lit/ds/symlink/ne555.pdf; Height: 1.75mm; Mouser Part Number: 595-NE555DR; Mouser Price/Stock: https://www.mouser.com/Search/Refine.aspx?Keyword=595-NE555DR; RS Part Number: 1218414; RS Price/Stock: http://uk.rs-online.com/web/p/products/1218414
footprint SOIC127P600X175-8N
pins: 1 GND (power), 2 TRIG (in), 3 OUT (out), 4 ~{RESET} (in), 5 CONT (io), 6 THRES (in), 7 DISCH (out), 8 VCC (power)

## NSL-19M51
designator U?
Undefined or Miscellaneous; Manufacturer_Name: Silonex; Manufacturer_Part_Number: NSL-19M51; Datasheet Link: http://uk.rs-online.com/web/p/products/9146710
footprint NSL-19M51
pins: 1, 2

## OS102011MS2QN1C
designator S?
Switch; Manufacturer_Name: C & K COMPONENTS; Manufacturer_Part_Number: OS102011MS2QN1C; Datasheet Link: http://uk.rs-online.com/web/p/products/1546147; Height: 8.7mm; Mouser Part Number: 611-OS102011MS2QN1C; Mouser Price/Stock: https://www.mouser.co.uk/ProductDetail/CK/OS102011MS2QN1C?qs=FgXbtR4Gg7KP4hs8ueQ7Wg%3D%3D; Arrow Part Number: OS102011MS2QN1C; Arrow Price/Stock: https://www.arrow.com/en/products/os102011ms2qn1c/ck?region=europe
footprint OS102011MS2QN1C
pins: 1 NO, 2 COM, 3 NC, MH1, MH2

## OT322525MJBA4SL
designator Y?
Crystal or Oscillator; Manufacturer_Name: YXC; Manufacturer_Part_Number: OT322525MJBA4SL; Datasheet Link: https://wmsc.lcsc.com/wmsc/upload/file/pdf/v2/lcsc/2304140030_YXC-OT322525MJBA4SL_C669088.pdf; Height: 1mm
footprint OT322525MJBA4SL
pins: 1 TRI-STATE, 2 GND, 3 OUT, 4 VDD

## PC817X2NSZ0F
designator IC?
Integrated Circuit; Manufacturer_Name: Sharp Microelectronics; Manufacturer_Part_Number: PC817X2NSZ0F; Datasheet Link: https://datasheet.datasheetarchive.com/originals/distributors/Datasheets_SAMA/458e45842a103a05998fcebbd6f7366e.pdf; Height: 4mm; Mouser Part Number: N/A; Mouser Price/Stock: https://www.mouser.co.uk/ProductDetail/Sharp-Microelectronics/PC817X2NSZ0F?qs=6kT3pPPHxnU7uYWM8Yy85A%3D%3D
footprint DIP762W60P254L458H400Q4N
pins: 1 AN, 2 CA, 3 E, 4 C

## PCF8574AN
designator IC?
Integrated Circuit; Manufacturer_Name: Texas Instruments; Manufacturer_Part_Number: PCF8574AN; Datasheet Link: https://datasheet.datasheetarchive.com/originals/distributors/Datasheets-302/23858.pdf; Height: 5.08mm; Mouser Part Number: 595-PCF8574AN; Mouser Price/Stock: https://www.mouser.co.uk/ProductDetail/Texas-Instruments/PCF8574AN?qs=afYny40WCj1LTAGWng0tDg%3D%3D; Arrow Part Number: PCF8574AN; Arrow Price/Stock: https://www.arrow.com/en/products/pcf8574an/texas-instruments?region=nac
footprint DIP794W53P254L1930H508Q16N
pins: 1 A0, 2 A1, 3 A2, 4 P0, 5 P1, 6 P2, 7 P3, 8 GND, 9 P4, 10 P5, 11 P6, 12 P7, 13 ~{INT}, 14 SCL, 15 SDA, 16 VCC

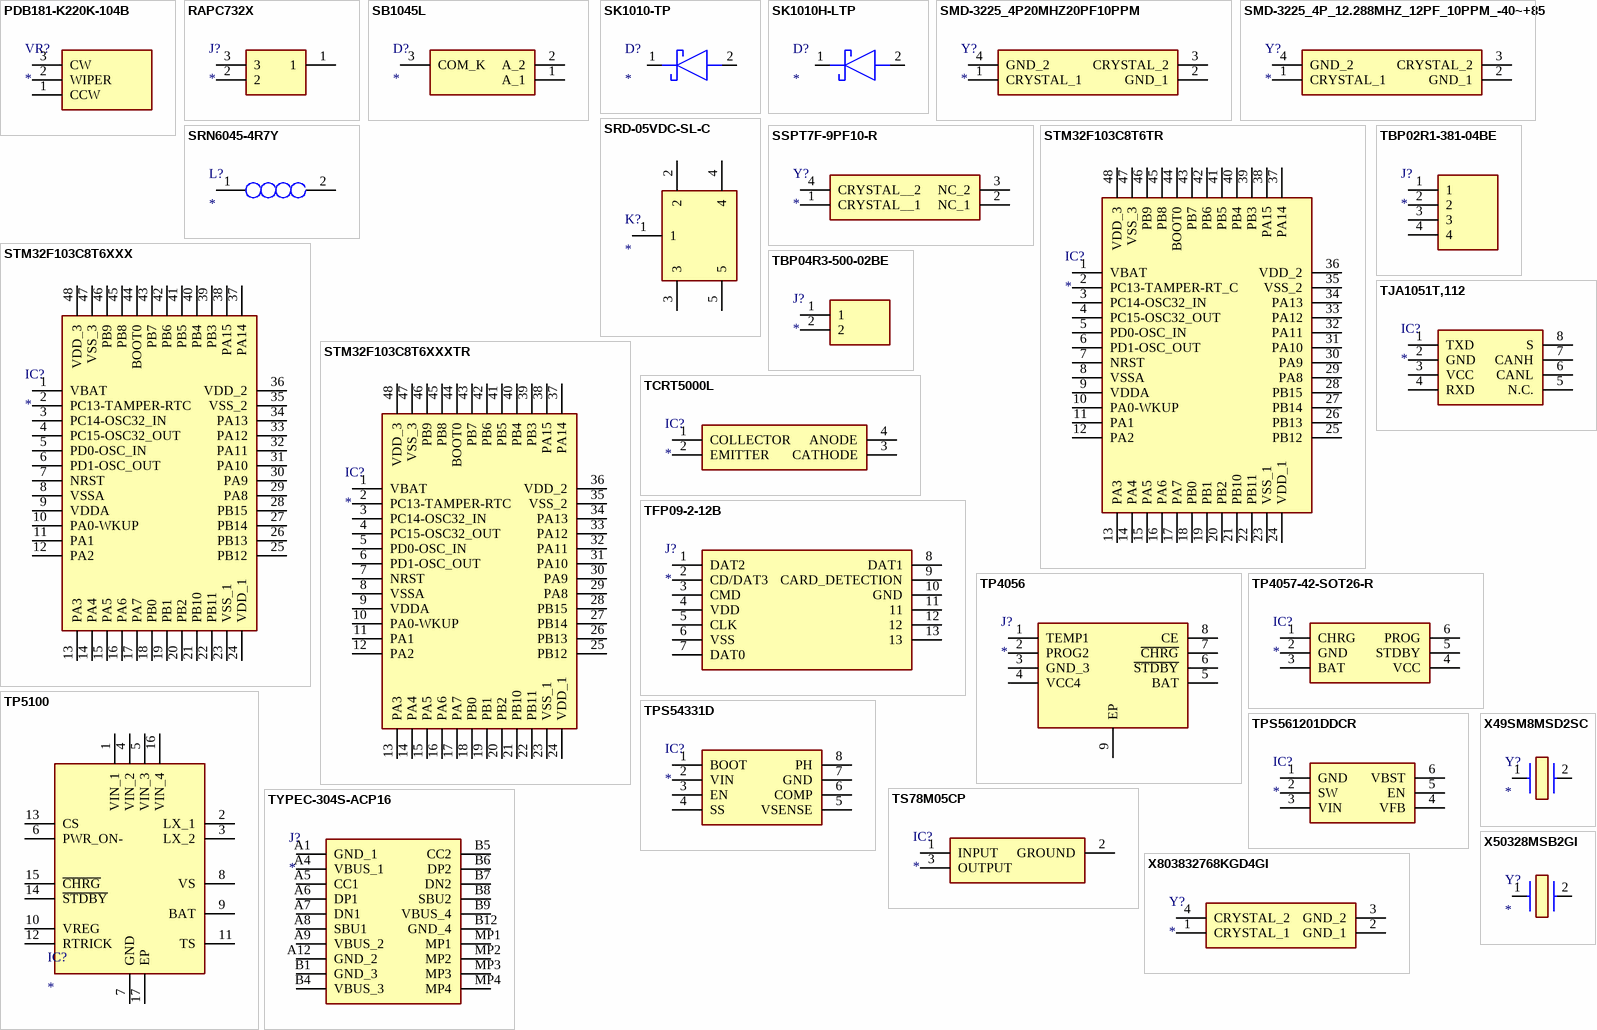
[diagram p2: symbols PDB181-K220K-104B to X803832768KGD4GI]

## PDB181-K220K-104B
designator VR?
Variable Resistor; Manufacturer_Name: Bourns; Manufacturer_Part_Number: PDB181-K220K-104B; Datasheet Link: https://www.mouser.com/datasheet/2/54/PDB18-1013655.pdf; Height: 16.5mm; Mouser Part Number: 652-PDB181-K220K104B; Mouser Price/Stock: https://www.mouser.co.uk/ProductDetail/Bourns/PDB181-K220K-104B?qs=Ivs1Be2ZGq6BrJBXLYE2Gg%3D%3D; Arrow Part Number: PDB181-K220K-104B; Arrow Price/Stock: https://www.arrow.com/en/products/pdb181-k220k-104b/bourns?region=nac
footprint PDB181K220K104B
pins: 1 CCW, 2 WIPER, 3 CW

## RAPC732X
designator J?
Connector; Manufacturer_Name: Switchcraft; Manufacturer_Part_Number: RAPC732X; Datasheet Link: http://www.switchcraft.com/Drawings/rapc732x_cd.pdf; Height: 11mm; Mouser Part Number: 502-RAPC732X; Mouser Price/Stock: https://www.mouser.co.uk/ProductDetail/Switchcraft/RAPC732X?qs=mcPJWgAPNrf44q5B71nLHg%3D%3D; Arrow Part Number: RAPC732X; Arrow Price/Stock: https://www.arrow.com/en/products/rapc732x/switchcraft?region=nac
footprint RAPC732X
pins: 1, 2, 3

## SB1045L
designator D?
Schottky Diode; Manufacturer_Name: MDD; Manufacturer_Part_Number: SB1045L; Datasheet Link: https://media.digikey.com/pdf/Data%20Sheets/NextGen%20Components%20PDFs/TO277SB10S045L.pdf; Height: 1.2mm
footprint SB1045L
pins: 1 A_1, 2 A_2, 3 COM_K

## SK1010-TP
designator D?
Schottky Diode; Manufacturer_Name: MCC; Manufacturer_Part_Number: SK1010-TP; Datasheet Link: https://datasheet.datasheetarchive.com/originals/distributors/Datasheets_SAMA/080c41331cebc20af8c71c83601b8880.pdf; Height: 5.43mm; Mouser Part Number: 833-SK1010-TP; Mouser Price/Stock: https://www.mouser.co.uk/ProductDetail/Micro-Commercial-Components-MCC/SK1010-TP?qs=SdqRYZZ9IxAVKTFi831yUQ%3D%3D
footprint DIOM8060X543N
pins: 1 K, 2 A

## SK1010H-LTP
designator D?
Schottky Diode; Manufacturer_Name: MCC; Manufacturer_Part_Number: SK1010H-LTP; Datasheet Link: https://www.mccsemi.com/pdf/Products/SK1010H-LTP(SMC).pdf; Height: 2.62mm; Mouser Part Number: 833-SK1010H-LTP; Mouser Price/Stock: https://www.mouser.co.uk/ProductDetail/Micro-Commercial-Components-MCC/SK1010H-LTP?qs=rSMjJ%252B1ewcRqhf8RaT6QNQ%3D%3D
footprint DIOM7959X262N
pins: 1 K, 2 A

## SMD-3225_4P20MHZ20PF10PPM
designator Y?
Crystal or Oscillator; Manufacturer_Name: Zhejiang Abel Elec; Manufacturer_Part_Number: SMD-3225_4P20MHZ20PF10PPM; Datasheet Link: https://datasheet.lcsc.com/szlcsc/Zhejiang-Abel-Elec-SMD-3225-4P20MHZ20PF10PPM_C172730.pdf; Height: 0.8mm
footprint SMD3225_4P20MHZ20PF10PPM
pins: 1 CRYSTAL_1, 2 GND_1, 3 CRYSTAL_2, 4 GND_2

## SMD-3225_4P_12.288MHZ_12PF_10PPM_-40~+85
designator Y?
Crystal or Oscillator; Manufacturer_Name: TAE(Zhejiang Abel Elec); Manufacturer_Part_Number: SMD-3225_4P 12.288MHZ 12PF 10PPM -40~+85¡æ; Datasheet Link: https://datasheet.lcsc.com/szlcsc/1901241506_Zhejiang-Abel-Elec-SMD-3225-4P-12-288MHZ-12PF-10PPM-40-85_C362472.pdf; Height: 0.8mm
footprint SMD3225_4P12288MHZ12PF10PPM4085
pins: 1 CRYSTAL_1, 2 GND_1, 3 CRYSTAL_2, 4 GND_2

## SRD-05VDC-SL-C
designator K?
Relay or Contactor; Manufacturer_Name: Songle Relay; Manufacturer_Part_Number: SRD-05VDC-SL-C; Datasheet Link: http://files.microjpm.webnode.com/200001010-dda41de9e1/Songle%20Relay%20Datasheet.pdf
footprint SRD
pins: 1, 2, 3, 4, 5

## SRN6045-4R7Y
designator L?
Inductor; Manufacturer_Name: Bourns; Manufacturer_Part_Number: SRN6045-4R7Y; Datasheet Link: https://www.bourns.com/data/global/pdfs/SRN6045.pdf; Mouser Part Number: 652-SRN6045-4R7Y; Mouser Price/Stock: https://www.mouser.co.uk/ProductDetail/Bourns/SRN6045-4R7Y?qs=opBjA1TV902tB4tumIiZhg%3D%3D; Arrow Part Number: SRN6045-4R7Y; Arrow Price/Stock: https://www.arrow.com/en/products/srn6045-4r7y/bourns?region=nac
footprint SRN6045_1
pins: 1, 2

## SSPT7F-9PF10-R
designator Y?
Crystal or Oscillator; Manufacturer_Name: Seiko Semiconductors; Manufacturer_Part_Number: SSPT7F-9PF10-R; Datasheet Link: https://www.sii.co.jp/en/quartz/files/2014/02/SSP-T7-F_Leaflet_e20151217.pdf; Height: 1.4mm
footprint SSPT7F9PF10R
pins: 1 CRYSTAL__1, 2 NC_1, 3 NC_2, 4 CRYSTAL__2

## STM32F103C8T6TR
designator IC?
Integrated Circuit; Manufacturer_Name: STMicroelectronics; Manufacturer_Part_Number: STM32F103C8T6TR; Datasheet Link: http://media.digikey.com/pdf/Data%20Sheets/ST%20Microelectronics%20PDFS/STM32F103x8,B.pdf; Height: 1.6mm; Mouser Part Number: 511-STM32F103C8T6TR; Mouser Price/Stock: https://www.mouser.co.uk/ProductDetail/STMicroelectronics/STM32F103C8T6TR?qs=5HwTSiuA5HDxFj62n06yag%3D%3D; Arrow Part Number: STM32F103C8T6TR; Arrow Price/Stock: https://www.arrow.com/en/products/stm32f103c8t6tr/stmicroelectronics?region=nac
footprint QFP50P900X900X160-48N
pins: 1 VBAT, 2 PC13-TAMPER-RT_C, 3 PC14-OSC32_IN, 4 PC15-OSC32_OUT, 5 PD0-OSC_IN, 6 PD1-OSC_OUT, 7 NRST, 8 VSSA, 9 VDDA, 10 PA0-WKUP, 11 PA1, 12 PA2, 13 PA3, 14 PA4, 15 PA5, 16 PA6, 17 PA7, 18 PB0, 19 PB1, 20 PB2, 21 PB10, 22 PB11, 23 VSS_1, 24 VDD_1, 25 PB12, 26 PB13, 27 PB14, 28 PB15, 29 PA8, 30 PA9, 31 PA10, 32 PA11, 33 PA12, 34 PA13, 35 VSS_2, 36 VDD_2, 37 PA14, 38 PA15, 39 PB3, 40 PB4, 41 PB5, 42 PB6, 43 PB7, 44 BOOT0, 45 PB8, 46 PB9, 47 VSS_3, 48 VDD_3

## STM32F103C8T6XXX
designator IC?
Integrated Circuit; Manufacturer_Name: ST; Manufacturer_Part_Number: STM32F103C8T6XXX; Height: 1.6mm
footprint QFP50P900X900X160-48N
pins: 1 VBAT, 2 PC13-TAMPER-RTC, 3 PC14-OSC32_IN, 4 PC15-OSC32_OUT, 5 PD0-OSC_IN, 6 PD1-OSC_OUT, 7 NRST, 8 VSSA, 9 VDDA, 10 PA0-WKUP, 11 PA1, 12 PA2, 13 PA3, 14 PA4, 15 PA5, 16 PA6, 17 PA7, 18 PB0, 19 PB1, 20 PB2, 21 PB10, 22 PB11, 23 VSS_1, 24 VDD_1, 25 PB12, 26 PB13, 27 PB14, 28 PB15, 29 PA8, 30 PA9, 31 PA10, 32 PA11, 33 PA12, 34 PA13, 35 VSS_2, 36 VDD_2, 37 PA14, 38 PA15, 39 PB3, 40 PB4, 41 PB5, 42 PB6, 43 PB7, 44 BOOT0, 45 PB8, 46 PB9, 47 VSS_3, 48 VDD_3

## STM32F103C8T6XXXTR
designator IC?
Integrated Circuit; Manufacturer_Name: STMicroelectronics; Manufacturer_Part_Number: STM32F103C8T6XXXTR; Datasheet Link: https://4donline.ihs.com/images/VipMasterIC/IC/SGST/SGSTS49413/SGSTS49413-1.pdf?hkey=EF798316E3902B6ED9A73243A3159BB0; Height: 1.6mm
footprint QFP50P900X900X160-48N
pins: 1 VBAT, 2 PC13-TAMPER-RTC, 3 PC14-OSC32_IN, 4 PC15-OSC32_OUT, 5 PD0-OSC_IN, 6 PD1-OSC_OUT, 7 NRST, 8 VSSA, 9 VDDA, 10 PA0-WKUP, 11 PA1, 12 PA2, 13 PA3, 14 PA4, 15 PA5, 16 PA6, 17 PA7, 18 PB0, 19 PB1, 20 PB2, 21 PB10, 22 PB11, 23 VSS_1, 24 VDD_1, 25 PB12, 26 PB13, 27 PB14, 28 PB15, 29 PA8, 30 PA9, 31 PA10, 32 PA11, 33 PA12, 34 PA13, 35 VSS_2, 36 VDD_2, 37 PA14, 38 PA15, 39 PB3, 40 PB4, 41 PB5, 42 PB6, 43 PB7, 44 BOOT0, 45 PB8, 46 PB9, 47 VSS_3, 48 VDD_3

## TBP02R1-381-04BE
designator J?
Connector; Manufacturer_Name: CUI Devices; Manufacturer_Part_Number: TBP02R1-381-04BE; Datasheet Link: https://www.arrow.com/en/products/tbp02r1-381-04be/cui-inc; Height: 7.6mm; Mouser Part Number: 490-TBP02R1-381-04BE; Mouser Price/Stock: https://www.mouser.co.uk/ProductDetail/CUI-Devices/TBP02R1-381-04BE?qs=PzGy0jfpSMtxJkF4%252B1ZH4w%3D%3D; Arrow Part Number: TBP02R1-381-04BE; Arrow Price/Stock: https://www.arrow.com/en/products/tbp02r1-381-04be/cui-devices?region=nac
footprint TBP02R138104BE
pins: 1, 2, 3, 4

## TBP04R3-500-02BE
designator J?
Connector; Manufacturer_Name: Same Sky; Manufacturer_Part_Number: TBP04R3-500-02BE; Description: Pluggable Terminal Blocks 2 24 Poles; Datasheet Link: https://nl.mouser.com/datasheet/2/670/tbp04r3_500-2853936.pdf; Height: 12.5mm; Mouser Part Number: 179-TBP04R3-500-02BE; Mouser Price/Stock: https://www.mouser.co.uk/ProductDetail/CUI-Devices/TBP04R3-500-02BE?qs=TCDPyi3sCW0BYKJnH0jlOA%3D%3D
footprint TBP04R350002BE
pins: 1, 2

## TCRT5000L
designator IC?
Integrated Circuit; Manufacturer_Name: Vishay; Manufacturer_Part_Number: TCRT5000L; Datasheet Link: https://datasheet.datasheetarchive.com/originals/distributors/Datasheets-310/86882.pdf; Mouser Part Number: 782-TCRT5000L; Mouser Price/Stock: https://www.mouser.co.uk/ProductDetail/Vishay-Semiconductors/TCRT5000L?qs=%2Fjqivxn91cdBAizhsWilRQ%3D%3D; Arrow Part Number: TCRT5000L; Arrow Price/Stock: https://www.arrow.com/en/products/tcrt5000l/vishay?region=nac
footprint TCRT5000L
pins: 1 COLLECTOR, 2 EMITTER, 3 CATHODE, 4 ANODE

## TFP09-2-12B
designator J?
Connector; Manufacturer_Name: 100y; Manufacturer_Part_Number: TFP09-2-12B; Datasheet Link: http://images.100y.com.tw/pdf_file/10-TFP09-2-12B.pdf; Height: 2.45mm
footprint TFP09212B
pins: 1 DAT2, 2 CD/DAT3, 3 CMD, 4 VDD, 5 CLK, 6 VSS, 7 DAT0, 8 DAT1, 9 CARD_DETECTION, 10 GND, 11, 12, 13

## TJA1051T,112
designator IC?
Integrated Circuit; Manufacturer_Name: NXP; Manufacturer_Part_Number: TJA1051T,112; Datasheet Link: http://www.nxp.com/docs/en/data-sheet/TJA1051.pdf; Height: 1.75mm; Mouser Part Number: 771-TJA1051T,112; Mouser Price/Stock: https://www.mouser.co.uk/ProductDetail/NXP-Semiconductors/TJA1051T112?qs=pw%2F%252B4fOKvQueHje9FmjPJw%3D%3D; Arrow Part Number: TJA1051T,112; Arrow Price/Stock: https://www.arrow.com/en/products/tja1051t112/nxp-semiconductors?region=nac
footprint SOIC127P600X175-8N
pins: 1 TXD, 2 GND, 3 VCC, 4 RXD, 5 N.C., 6 CANL, 7 CANH, 8 S

## TP4056
designator J?
Connector; Manufacturer_Name: NanJing Top Power; Manufacturer_Part_Number: TP4056; Datasheet Link: https://dlnmh9ip6v2uc.cloudfront.net/datasheets/Prototyping/TP4056.pdf; Height: 1.75mm
footprint SOIC127P600X175-9N
pins: 1 TEMP1, 2 PROG2, 3 GND_3, 4 VCC4, 5 BAT, 6 ~{STDBY}, 7 ~{CHRG}, 8 CE, 9 EP

## TP4057-42-SOT26-R
designator IC?
Integrated Circuit; Manufacturer_Name: Nanjing Extension Microelectronics; Manufacturer_Part_Number: TP4057-42-SOT26-R; Datasheet Link: https://datasheet.lcsc.com/szlcsc/Nanjing-Extension-Microelectronics-TP4057_C12044.pdf; Height: 1.25mm
footprint SOT95P280X125-6N
pins: 1 CHRG, 2 GND, 3 BAT, 4 VCC, 5 STDBY, 6 PROG

## TP5100
designator IC?
Integrated Circuit; Manufacturer_Name: TOP POWER; Manufacturer_Part_Number: TP5100; Datasheet Link: https://datasheet.lcsc.com/lcsc/1912111437_TOPPOWER-Nanjing-Extension-Microelectronics-TP5100_C379389.pdf; Height: 0.9mm
footprint QFN65P400X400X90-17N-D
pins: 1 VIN_1, 2 LX_1, 3 LX_2, 4 VIN_2, 5 VIN_3, 6 PWR_ON-, 7 GND, 8 VS, 9 BAT, 10 VREG, 11 TS, 12 RTRICK, 13 CS, 14 ~{STDBY}, 15 ~{CHRG}, 16 VIN_4, 17 EP

## TPS54331D
designator IC?
Integrated Circuit; Manufacturer_Name: Texas Instruments; Manufacturer_Part_Number: TPS54331D; Datasheet Link: http://www.ti.com/lit/gpn/tps54331; Height: 1.75mm; Mouser Part Number: 595-TPS54331D; Mouser Price/Stock: https://www.mouser.co.uk/ProductDetail/Texas-Instruments/TPS54331D?qs=QyYHynRG50pEbpiybdzwkw%3D%3D; Arrow Part Number: TPS54331D; Arrow Price/Stock: https://www.arrow.com/en/products/tps54331d/texas-instruments?region=europe
footprint SOIC127P600X175-8N
pins: 1 BOOT, 2 VIN, 3 EN, 4 SS, 5 VSENSE, 6 COMP, 7 GND, 8 PH

## TPS561201DDCR
designator IC?
Integrated Circuit; Manufacturer_Name: Texas Instruments; Manufacturer_Part_Number: TPS561201DDCR; Datasheet Link: http://www.ti.com/lit/gpn/tps561201; Height: 1.1mm; Mouser Part Number: 595-TPS561201DDCR; Mouser Price/Stock: https://www.mouser.co.uk/ProductDetail/Texas-Instruments/TPS561201DDCR?qs=5aG0NVq1C4ySUOSRQSt9MQ%3D%3D; Arrow Part Number: TPS561201DDCR; Arrow Price/Stock: https://www.arrow.com/en/products/tps561201ddcr/texas-instruments?region=nac
footprint SOT95P280X110-6N
pins: 1 GND, 2 SW, 3 VIN, 4 VFB, 5 EN, 6 VBST

## TS78M05CP
designator IC?
Integrated Circuit; Manufacturer_Name: Taiwan Semiconductor; Manufacturer_Part_Number: TS78M05CP; Datasheet Link: https://componentsearchengine.com/Datasheets/1/TS78M05CP.pdf; Height: 2.38mm; Mouser Part Number: 821-TS78M05CP; Mouser Price/Stock: https://www.mouser.co.uk/ProductDetail/Taiwan-Semiconductor/TS78M05CP?qs=F0bBuU9YDEzJZsmmDzcbEA%3D%3D
footprint TS78M05CP
pins: 1 INPUT, 2 GROUND, 3 OUTPUT